# Altium footprint library MT-Sources.PcbLib: 36 footprints (part 3 of 3)
Each footprint in its own frame and in the unit in brackets; x right, y up, seen from the top. Pads: shape width x height; smd on the part's side, far side on the other; paste and mask are expansions set on the pad; w line width, h text height; cw(c..) or ccw(c..) is an arc to the next point about the centre after c.
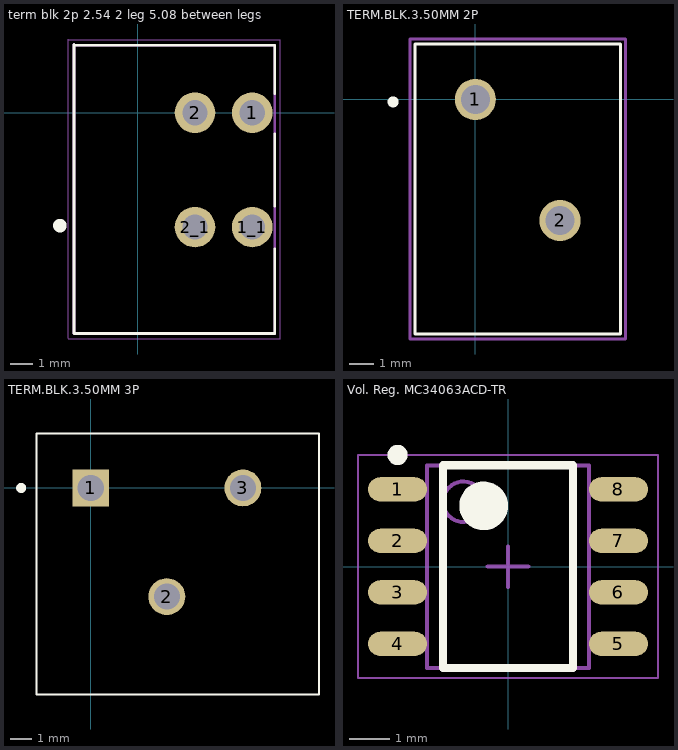
[diagram p2: the footprints below, top view; thin cyan lines are the x and y axes]

## term blk 2p 2.54 2 leg 5.08 between legs [mm]
pads (4):
  round 1.8 hole 1.12: 1(5.08,0) 1_1(5.08,-5.08) 2(2.54,0)
  round 1.8 hole 1.12 paste+0: 2_1(2.54,-5.08)
Top Overlay:
  circle w0.4: c-3.46,-5.015 r0.1
  lines w0.127: -2.84,-9.8 6.08,-9.8 6.08,-6.04 ; -2.84,-9.775 -2.84,3.025 ; -2.84,3 6.08,3 6.08,0.86 ; 6.08,-4.14 6.08,-0.94
Mechanical 13:
  lines w0.127: -2.84,-9.8 6.08,-9.8 6.08,3 -2.84,3 ; -2.84,-9.775 -2.84,3.025
Mechanical 15:
  lines w0.05: -3.1,-10.05 6.33,-10.05 6.33,3.25 -3.1,3.25 ; -3.09,-10.025 -3.09,3.275

## TERM.BLK.3.50MM 2P [mm] "DG250-3.5-02P-11-00SH / Datasheet degerelerinden farkli degerler kullanildi"
pads (2):
  round 1.7 hole 1.2: 1(0,0) 2(3.5,-5)
Top Overlay:
  circle w0.254: c-3.4,-0.1 r0.1
  lines w0.12: -2.5,-9.7 6,-9.7 6,2.3 -2.5,2.3 -2.5,-9.7
Mechanical 7:
  lines w0.12: -2.7,-9.9 6.2,-9.9 6.2,2.5 -2.7,2.5 -2.7,-9.9

## TERM.BLK.3.50MM 3P [mm]
pads (3):
  rect 1.7x1.7 hole 1.2: 1(0,0)
  round 1.7 hole 1.2: 2(3.5,-5) 3(7,0)
Top Overlay:
  circle w0.254: c-3.2,0 r0.1
  lines w0.1: -2.5,-9.5 -2.5,2.5 10.5,2.5 10.5,-9.5 -2.5,-9.5

## Vol. Reg. MC34063ACD-TR [mm] "IC-34063 DC-DC CONVERTER CONTRO3,9mm SMD SO8 TR ST"
height 1.75
pads (8):
  oval 1.45x0.6 smd: 1(-2.725,1.905) 2(-2.725,0.635) 3(-2.725,-0.635) 4(-2.725,-1.905) 5(2.725,-1.905) 6(2.725,-0.635) 7(2.725,0.635) 8(2.725,1.905)
Top Overlay:
  circle w0.6: c-0.6,1.5 r0.3
  circle w0.25: c-2.725,2.755 r0.125
  lines w0.2: -1.6,-2.5 1.6,-2.5 1.6,2.5 -1.6,2.5 -1.6,-2.5
Mechanical 13:
  circle w0.1: c-1.1,1.6 r0.5
  lines w0.1: -2,-2.5 2,-2.5 2,2.5 -2,2.5 -2,-2.5
Mechanical 15:
  lines w0.05: -3.7,-2.75 3.7,-2.75 3.7,2.75 -3.7,2.75 -3.7,-2.75
  lines w0.1: -0.5,0 0.5,0 ; 0,-0.5 0,0.5
3D body: height 1.75, standoff 0.1, extent -2,-2.5 2,2.5